# Altium schematic symbol library Capicator.SchLib: 3 symbols
Pins are listed as number, name and electrical type; pins without a type are passive.

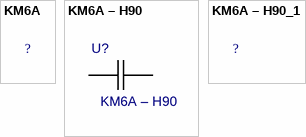
[diagram p0: symbols KM6A to KM6A – H90_1]

## KM6A
designator ?  (value not drawn)
Value: *
footprint CAPPICATOR

## KM6A – H90
designator U?
Value: *
pins: 1 0, 2 1

## KM6A – H90_1
designator ?  (value not drawn)
Value: *
footprint CAPPICATOR